# Altium integrated library Inductors$.IntLib: 41 symbols
Pins are listed as number, name and electrical type; pins without a type are passive.

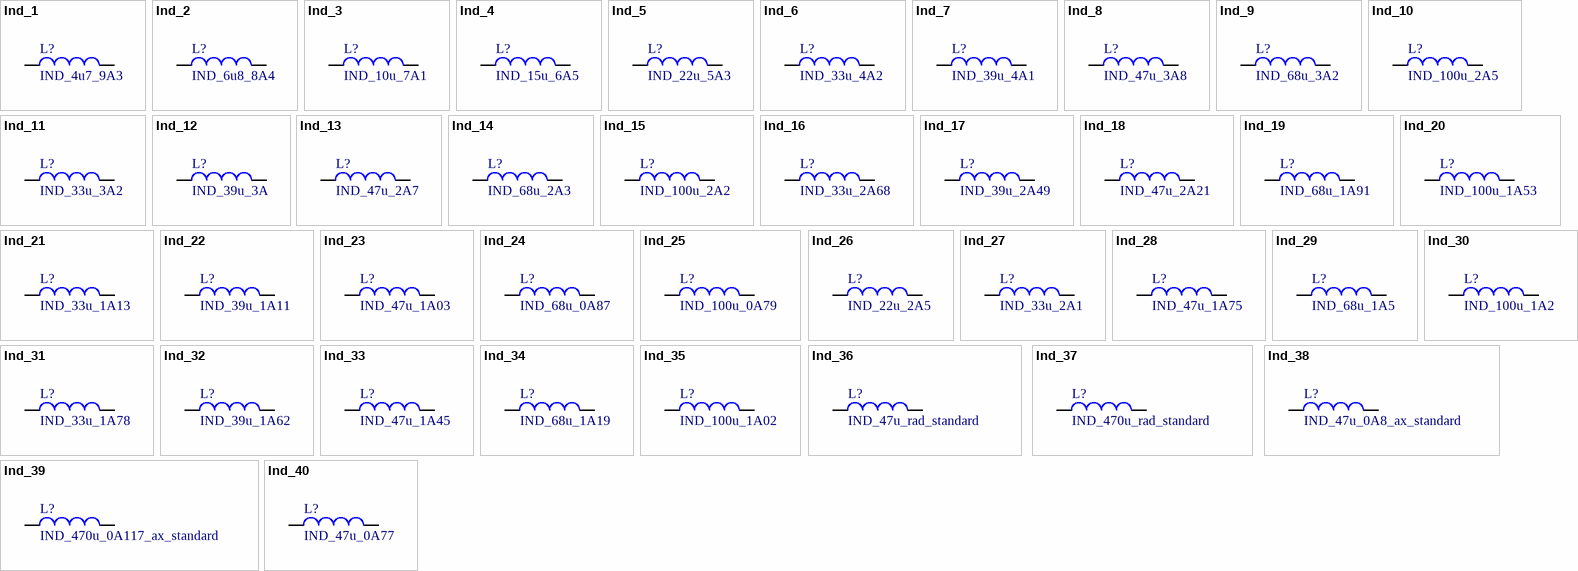
[diagram p0: symbols Ind_1 to Ind_40]

## Ind_1
designator L?, comment IND_4u7_9A3
Inductor; Wuerth_number: 744 7709 004; QR: 0; Inductivity: 4.7 uH; Current: 9.3 A; UID: Ind_1; Name: IND_4u7_9A3; mounting: SMD
footprint WE_PD_XXL
pins: 1, 2

## Ind_2
designator L?, comment IND_6u8_8A4
Inductor; Wuerth_number: 744 7709 006; QR: 0; Inductivity: 6.8 uH; Current: 8.4 A; UID: Ind_2; Name: IND_6u8_8A4; mounting: SMD
footprint WE_PD_XXL
pins: 1, 2

## Ind_3
designator L?, comment IND_10u_7A1
Inductor; Wuerth_number: 744 7709 100; QR: 0; Inductivity: 10 uH; Current: 7.1 A; F24: MCI_component_libs\MCI_Inductors\MCI_Inductors.PcbLib; UID: Ind_3; Name: IND_10u_7A1; mounting: SMD
footprint WE_PD_XXL
pins: 1, 2

## Ind_4
designator L?, comment IND_15u_6A5
Inductor; Wuerth_number: 744 7709 150; QR: 0; Inductivity: 15 uH; Current: 6.5 A; UID: Ind_4; Name: IND_15u_6A5; mounting: SMD
footprint WE_PD_XXL
pins: 1, 2

## Ind_5
designator L?, comment IND_22u_5A3
Inductor; Wuerth_number: 744 7709 220; QR: 0; Inductivity: 22 uH; Current: 5.3 A; UID: Ind_5; Name: IND_22u_5A3; mounting: SMD
footprint WE_PD_XXL
pins: 1, 2

## Ind_6
designator L?, comment IND_33u_4A2
Inductor; Wuerth_number: 744 7709 330; QR: 0; Inductivity: 33 uH; Current: 4.2 A; UID: Ind_6; Name: IND_33u_4A2; mounting: SMD
footprint WE_PD_XXL
pins: 1, 2

## Ind_7
designator L?, comment IND_39u_4A1
Inductor; Wuerth_number: 744 7709 390; QR: 0; Inductivity: 39 uH; Current: 4.1 A; UID: Ind_7; Name: IND_39u_4A1; mounting: SMD
footprint WE_PD_XXL
pins: 1, 2

## Ind_8
designator L?, comment IND_47u_3A8
Inductor; Wuerth_number: 744 7709 470; QR: 0; Inductivity: 47 uH; Current: 3.8 A; UID: Ind_8; Name: IND_47u_3A8; mounting: SMD
footprint WE_PD_XXL
pins: 1, 2

## Ind_9
designator L?, comment IND_68u_3A2
Inductor; Wuerth_number: 744 7709 680; QR: 0; Inductivity: 68 uH; Current: 3.2 A; UID: Ind_9; Name: IND_68u_3A2; mounting: SMD
footprint WE_PD_XXL
pins: 1, 2

## Ind_10
designator L?, comment IND_100u_2A5
Inductor; Wuerth_number: 744 7709 101; QR: 0; Inductivity: 100 uH; Current: 2.5 A; UID: Ind_10; Name: IND_100u_2A5; mounting: SMD
footprint WE_PD_XXL
pins: 1, 2

## Ind_11
designator L?, comment IND_33u_3A2
Inductor; Wuerth_number: 744 770 133; QR: 0; Inductivity: 33 uH; Current: 3.2 A; UID: Ind_11; Name: IND_33u_3A2; mounting: SMD
footprint WE_PD_XL
pins: 1, 2

## Ind_12
designator L?, comment IND_39u_3A
Inductor; Wuerth_number: 744 770 139; QR: 0; Inductivity: 39 uH; Current: 3 A; UID: Ind_12; Name: IND_39u_3A; mounting: SMD
footprint WE_PD_XL
pins: 1, 2

## Ind_13
designator L?, comment IND_47u_2A7
Inductor; Wuerth_number: 744 770 147; QR: 0; Inductivity: 47 uH; Current: 2.7 A; UID: Ind_13; Name: IND_47u_2A7; mounting: SMD
footprint WE_PD_XL
pins: 1, 2

## Ind_14
designator L?, comment IND_68u_2A3
Inductor; Wuerth_number: 744 770 168; QR: 0; Inductivity: 68 uH; Current: 2.3 A; UID: Ind_14; Name: IND_68u_2A3; mounting: SMD
footprint WE_PD_XL
pins: 1, 2

## Ind_15
designator L?, comment IND_100u_2A2
Inductor; Wuerth_number: 744 770 20; QR: 0; Inductivity: 100 uH; Current: 2.2 A; UID: Ind_15; Name: IND_100u_2A2; mounting: SMD
footprint WE_PD_XL
pins: 1, 2

## Ind_16
designator L?, comment IND_33u_2A68
Inductor; Wuerth_number: 744 771 133; QR: 0; Inductivity: 33 uH; Current: 2.68 A; UID: Ind_16; Name: IND_33u_2A68; mounting: SMD
footprint WE_PD_L
pins: 1, 2

## Ind_17
designator L?, comment IND_39u_2A49
Inductor; Wuerth_number: 744 771 139; QR: 0; Inductivity: 39 uH; Current: 2.49 A; UID: Ind_17; Name: IND_39u_2A49; mounting: SMD
footprint WE_PD_L
pins: 1, 2

## Ind_18
designator L?, comment IND_47u_2A21
Inductor; Wuerth_number: 744 771 147; QR: 0; Inductivity: 47 uH; Current: 2.21 A; UID: Ind_18; Name: IND_47u_2A21; mounting: SMD
footprint WE_PD_L
pins: 1, 2

## Ind_19
designator L?, comment IND_68u_1A91
Inductor; Wuerth_number: 744 771 168; QR: 0; Inductivity: 68 uH; Current: 1.91 A; UID: Ind_19; Name: IND_68u_1A91; mounting: SMD
footprint WE_PD_L
pins: 1, 2

## Ind_20
designator L?, comment IND_100u_1A53
Inductor; Wuerth_number: 744 771 20; QR: 0; Inductivity: 100 uH; Current: 1.53 A; UID: Ind_20; Name: IND_100u_1A53; mounting: SMD
footprint WE_PD_L
pins: 1, 2

## Ind_21
designator L?, comment IND_33u_1A13
Inductor; Wuerth_number: 744 7779 133; QR: 0; Inductivity: 33 uH; Current: 1.13 A; UID: Ind_21; Name: IND_33u_1A13; mounting: SMD
footprint WE_PD_M
pins: 1, 2

## Ind_22
designator L?, comment IND_39u_1A11
Inductor; Wuerth_number: 744 7779 139; QR: 0; Inductivity: 39 uH; Current: 1.11 A; UID: Ind_22; Name: IND_39u_1A11; mounting: SMD
footprint WE_PD_M
pins: 1, 2

## Ind_23
designator L?, comment IND_47u_1A03
Inductor; Wuerth_number: 744 7779 147; QR: 0; Inductivity: 47 uH; Current: 1.03 A; UID: Ind_23; Name: IND_47u_1A03; mounting: SMD
footprint WE_PD_M
pins: 1, 2

## Ind_24
designator L?, comment IND_68u_0A87
Inductor; Wuerth_number: 744 7779 168; QR: 0; Inductivity: 68 uH; Current: 0.87 A; UID: Ind_24; Name: IND_68u_0A87; mounting: SMD
footprint WE_PD_M
pins: 1, 2

## Ind_25
designator L?, comment IND_100u_0A79
Inductor; Wuerth_number: 744 7779 20; QR: 0; Inductivity: 100 uH; Current: 0.79 A; UID: Ind_25; Name: IND_100u_0A79; mounting: SMD
footprint WE_PD_M
pins: 1, 2

## Ind_26
designator L?, comment IND_22u_2A5
Inductor; Wuerth_number: 744 066 220; QR: 0; Inductivity: 22 uH; Current: 2.5 A; UID: Ind_26; Name: IND_22u_2A5; mounting: SMD
footprint WE_TPC _XLH
pins: 1, 2

## Ind_27
designator L?, comment IND_33u_2A1
Inductor; Wuerth_number: 744 066 330; QR: 0; Inductivity: 33 uH; Current: 2.1 A; UID: Ind_27; Name: IND_33u_2A1; mounting: SMD
footprint WE_TPC _XLH
pins: 1, 2

## Ind_28
designator L?, comment IND_47u_1A75
Inductor; Wuerth_number: 744 066 470; QR: 0; Inductivity: 47 uH; Current: 1.75 A; UID: Ind_28; Name: IND_47u_1A75; mounting: SMD
footprint WE_TPC _XLH
pins: 1, 2

## Ind_29
designator L?, comment IND_68u_1A5
Inductor; Wuerth_number: 744 066 680; QR: 0; Inductivity: 68 uH; Current: 1.5  A; UID: Ind_29; Name: IND_68u_1A5; mounting: SMD
footprint WE_TPC _XLH
pins: 1, 2

## Ind_30
designator L?, comment IND_100u_1A2
Inductor; Wuerth_number: 744 066 101; QR: 0; Inductivity: 100 uH; Current: 1.2 A; UID: Ind_30; Name: IND_100u_1A2; mounting: SMD
footprint WE_TPC _XLH
pins: 1, 2

## Ind_31
designator L?, comment IND_33u_1A78
Inductor; Wuerth_number: 744 776 133; QR: 0; Inductivity: 33 uH; Current: 1.78 A; UID: Ind_31; Name: IND_33u_1A78; mounting: SMD
footprint WE_PD2_XL
pins: 1, 2

## Ind_32
designator L?, comment IND_39u_1A62
Inductor; Wuerth_number: 744 776 139; QR: 0; Inductivity: 39 uH; Current: 1.62 A; UID: Ind_32; Name: IND_39u_1A62; mounting: SMD
footprint WE_PD2_XL
pins: 1, 2

## Ind_33
designator L?, comment IND_47u_1A45
Inductor; Wuerth_number: 744 776 147; QR: 0; Inductivity: 47 uH; Current: 1.45 A; UID: Ind_33; Name: IND_47u_1A45; mounting: SMD
footprint WE_PD2_XL
pins: 1, 2

## Ind_34
designator L?, comment IND_68u_1A19
Inductor; Wuerth_number: 744 776 168; QR: 0; Inductivity: 68 uH; Current: 1.19 A; UID: Ind_34; Name: IND_68u_1A19; mounting: SMD
footprint WE_PD2_XL
pins: 1, 2

## Ind_35
designator L?, comment IND_100u_1A02
Inductor; Wuerth_number: 744 776 20; QR: 0; Inductivity: 100 uH; Current: 1.02 A; UID: Ind_35; Name: IND_100u_1A02; mounting: SMD
footprint WE_PD2_XL
pins: 1, 2

## Ind_36
designator L?, comment IND_47u_rad_standard
Inductor; QR: 0; Inductivity: 47 uH; F24: MCI_component_libs\MCI_Inductors\MCI_Inductors.PcbLib; UID: Ind_36; Name: IND_47u_rad_standard; mounting: THT
footprint IND_THT_RAD
pins: 1, 2

## Ind_37
designator L?, comment IND_470u_rad_standard
Inductor; QR: 0; Inductivity: 470 uH; F24: MCI_component_libs\MCI_Inductors\MCI_Inductors.PcbLib; UID: Ind_37; Name: IND_470u_rad_standard; mounting: THT
footprint IND_THT_RAD
pins: 1, 2

## Ind_38
designator L?, comment IND_47u_0A8_ax_standard
Inductor; RS_number: 191-1131; QR: 1; Inductivity: 47 uH; Current: 0.8 A; UID: Ind_38; Name: IND_47u_0A8_ax_standard; Name_Hyperlink: http://at.rs-online.com/web/p/induktivitaten-bedrahtet/1911131/?searchTerm=1911131&relevancy-data=636F3D3126696E3D4931384E525353746F636B4E756D6265724D504E266C753D656E266D6D3D6D61746368616C6C26706D3D5E5C647B367D247C5E5C647B377D247C5E5C647B31307D2426706F3D3; ComponentLink1URL: #NAME?; mounting: THT
footprint IND_THT_AX_47u
pins: 1, 2

## Ind_39
designator L?, comment IND_470u_0A117_ax_standard
Inductor; RS_number: 191-0677; QR: 1; Inductivity: 470 uH; Current: 0.17 A; UID: Ind_39; Name: IND_470u_0A117_ax_standard; Name_Hyperlink: http://at.rs-online.com/web/p/induktivitaten-bedrahtet/1910677/?searchTerm=191-0677&relevancy-data=636F3D3126696E3D4931384E525353746F636B4E756D6265724D504E266C753D656E266D6D3D6D61746368616C6C26706D3D5E5C647B337D5B5C732D2F255C2E2C5D5C647B332C347D2426706F3D; ComponentLink1URL: #NAME?; mounting: THT
footprint IND_THT_AX_470u
pins: 1, 2

## Ind_40
designator L?, comment IND_47u_0A77
Inductor; RS_number: 617-1681; QR: 0; Inductivity: 47 uH; Current: 0.77 A; UID: Ind_40; Name: IND_47u_0A77; Name_Hyperlink: http://at.rs-online.com/web/p/drahtgewickelte-smd-induktivitaten/6171681/?searchTerm=617-1681&relevancy-data=636F3D3126696E3D4931384E525353746F636B4E756D6265724D504E266C753D656E266D6D3D6D61746368616C6C26706D3D5E5C647B337D5B5C732D2F255C2E2C5D5C647B332C347D; ComponentLink1URL: #NAME?; mounting: SMD
footprint WE_PD2_S
pins: 1, 2

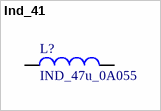
[diagram p1: symbol Ind_41]

## Ind_41
designator L?, comment IND_47u_0A055
Inductor; RS_number: 469-2883; QR: 0; Inductivity: 47 uH; Current: 0A055; UID: Ind_41; Name: IND_47u_0A055; Name_Hyperlink: http://at.rs-online.com/web/p/drahtgewickelte-smd-induktivitaten/4692883/?searchTerm=4692883&relevancy-data=636F3D3126696E3D4931384E525353746F636B4E756D6265724D504E266C753D656E266D6D3D6D61746368616C6C26706D3D5E5C647B367D247C5E5C647B377D247C5E5C647B31307D2; ComponentLink1URL: #NAME?; mounting: SMD
footprint COIL_0805
pins: 1, 2